# Altium schematic symbol library Bipolar_Transistor.SchLib: 6 symbols
Pins are listed as number, name and electrical type; pins without a type are passive.

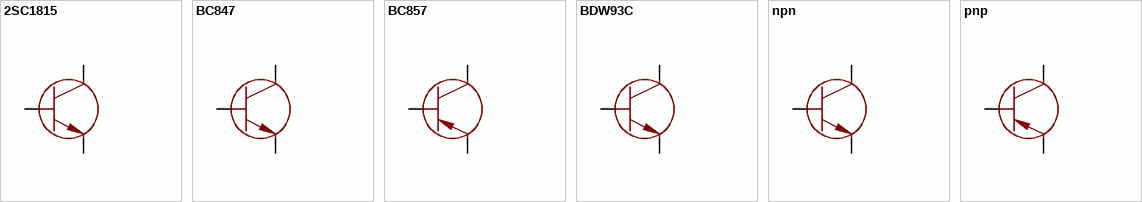
[diagram p0: symbols 2SC1815 to pnp]

## 2SC1815
designator VT?
50V, 0.15A, n-p-n.
footprint TO-92
pins: 1, 2, 3

## BC847
designator VT?
footprint SOT23 (SOT23, 3-Leads, Body 2,90x2,45mm, Pitch 0,95mm, IPC Medium Density)
pins: 1, 2, 3

## BC857
designator VT?
footprint SOT23 (SOT23, 3-Leads, Body 2,90x2,45mm, Pitch 0,95mm, IPC Medium Density)
pins: 1, 2, 3

## BDW93C
designator VT?
ST Micro, 100В 12А 80Вт, n-p-n
footprint TO-220V
pins: 1, 2, 3

## npn
designator VT?
pins: 1, 2, 3

## pnp
designator VT?
pins: 1, 2, 3